# Altium footprint library 排针.PCBLIB: 50 footprints (part 2 of 4)
Each footprint in its own frame and in the unit in brackets; x right, y up, seen from the top. Pads: shape width x height; smd on the part's side, far side on the other; paste and mask are expansions set on the pad; w line width, h text height; cw(c..) or ccw(c..) is an arc to the next point about the centre after c.
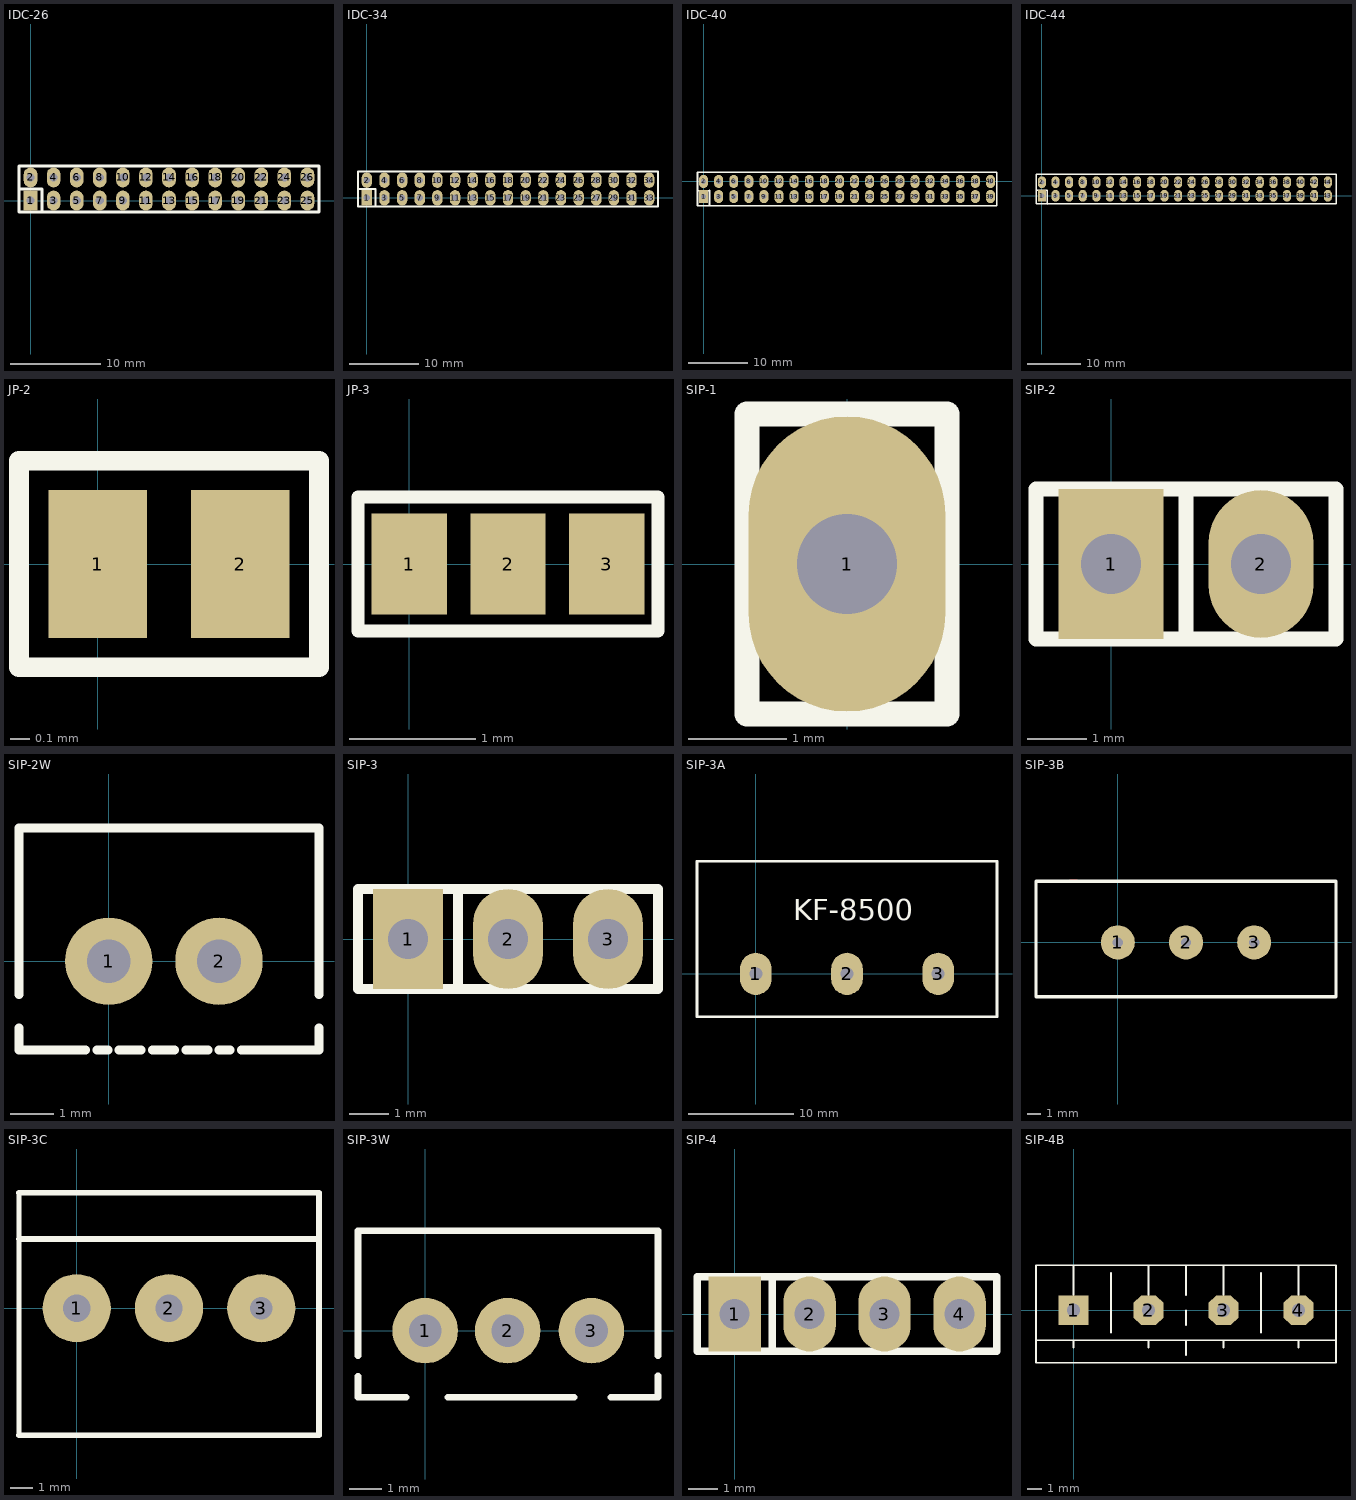
[diagram p1: the footprints below, top view; thin cyan lines are the x and y axes]

## IDC-26 [mm]
pads (26):
  rect 1.5x2.2 hole 0.9: 1(0,0)
  oval 1.5x2.2 hole 0.9: 2(0,2.54) 3(2.54,0) 4(2.54,2.54) 5(5.08,0) 6(5.08,2.54) 7(7.62,0) 8(7.62,2.54) 9(10.16,0) 10(10.16,2.54) 11(12.7,0) 12(12.7,2.54) 13(15.24,0) 14(15.24,2.54) 15(17.78,0) 16(17.78,2.54) 17(20.32,0) 18(20.32,2.54) 19(22.86,0) 20(22.86,2.54) 21(25.4,0) 22(25.4,2.54) 23(27.94,0) 24(27.94,2.54) 25(30.48,0) 26(30.48,2.54)
TopOverlay:
  lines w0.305: -1.27,1.27 1.27,1.27 1.27,-1.27 ; -1.27,-1.27 31.75,-1.27 31.75,3.81 -1.27,3.81 -1.27,-1.27

## IDC-34 [mm]
pads (34):
  rect 1.5x2.2 hole 0.9: 1(0,0)
  oval 1.5x2.2 hole 0.9: 2(0,2.54) 3(2.54,0) 4(2.54,2.54) 5(5.08,0) 6(5.08,2.54) 7(7.62,0) 8(7.62,2.54) 9(10.16,0) 10(10.16,2.54) 11(12.7,0) 12(12.7,2.54) 13(15.24,0) 14(15.24,2.54) 15(17.78,0) 16(17.78,2.54) 17(20.32,0) 18(20.32,2.54) 19(22.86,0) 20(22.86,2.54) 21(25.4,0) 22(25.4,2.54) 23(27.94,0) 24(27.94,2.54) 25(30.48,0) 26(30.48,2.54) 27(33.02,0) 28(33.02,2.54) 29(35.56,0) 30(35.56,2.54) 31(38.1,0) 32(38.1,2.54) 33(40.64,0) 34(40.64,2.54)
TopOverlay:
  lines w0.305: -1.27,1.27 1.27,1.27 1.27,-1.27 ; -1.27,-1.27 41.91,-1.27 41.91,3.81 -1.27,3.81 -1.27,-1.27

## IDC-40 [mm]
pads (40):
  rect 1.5x2.2 hole 0.9: 1(0,-2.54)
  oval 1.5x2.2 hole 0.9: 2(0,0) 3(2.54,-2.54) 4(2.54,0) 5(5.08,-2.54) 6(5.08,0) 7(7.62,-2.54) 8(7.62,0) 9(10.16,-2.54) 10(10.16,0) 11(12.7,-2.54) 12(12.7,0) 13(15.24,-2.54) 14(15.24,0) 15(17.78,-2.54) 16(17.78,0) 17(20.32,-2.54) 18(20.32,0) 19(22.86,-2.54) 20(22.86,0) 21(25.4,-2.54) 22(25.4,0) 23(27.94,-2.54) 24(27.94,0) 25(30.48,-2.54) 26(30.48,0) 27(33.02,-2.54) 28(33.02,0) 29(35.56,-2.54) 30(35.56,0) 31(38.1,-2.54) 32(38.1,0) 33(40.64,-2.54) 34(40.64,0) 35(43.18,-2.54) 36(43.18,0) 37(45.72,-2.54) 38(45.72,0) 39(48.26,-2.54) 40(48.26,0)
TopOverlay:
  lines w0.254: -1.016,-1.524 1.016,-1.524 ; -1.016,-4.064 -1.016,1.524 49.301,1.524 49.301,1.016 49.301,-4.064 -1.016,-4.064
  lines w0.305: 1.016,-4.064 1.016,-1.524

## IDC-44 [mm]
pads (44):
  rect 1.5x2.2 hole 0.9: 1(0,0)
  oval 1.5x2.2 hole 0.9: 2(0,2.54) 3(2.54,0) 4(2.54,2.54) 5(5.08,0) 6(5.08,2.54) 7(7.62,0) 8(7.62,2.54) 9(10.16,0) 10(10.16,2.54) 11(12.7,0) 12(12.7,2.54) 13(15.24,0) 14(15.24,2.54) 15(17.78,0) 16(17.78,2.54) 17(20.32,0) 18(20.32,2.54) 19(22.86,0) 20(22.86,2.54) 21(25.4,0) 22(25.4,2.54) 23(27.94,0) 24(27.94,2.54) 25(30.48,0) 26(30.48,2.54) 27(33.02,0) 28(33.02,2.54) 29(35.56,0) 30(35.56,2.54) 31(38.1,0) 32(38.1,2.54) 33(40.64,0) 34(40.64,2.54) 35(43.18,0) 36(43.18,2.54) 37(45.72,0) 38(45.72,2.54) 39(48.26,0) 40(48.26,2.54) 41(50.8,0) 42(50.8,2.54) 43(53.34,0) 44(53.34,2.54)
TopOverlay:
  lines w0.254: -1.016,1.016 1.016,1.016 ; -1.016,-1.524 54.864,-1.524 54.864,3.556 54.864,4.064 -1.016,4.064 -1.016,-1.524
  lines w0.305: 1.016,-1.524 1.016,1.016

## JP-2 [mil] "端节点"
pads (2):
  rect 20x30 smd: 1(0,0) 2(29,0)
TopOverlay:
  lines w4: -16,-21 -16,21 -9,21 45,21 45,-21 -16,-21

## JP-3 [mm]
pads (3):
  rect 0.6x0.8 smd: 1(0,0) 2(0.787,0) 3(1.575,0)
TopOverlay:
  lines w0.102: -0.406,-0.533 1.981,-0.533 1.981,0.533 -0.356,0.533 -0.406,0.533 -0.406,-0.533

## SIP-1 [mm]
pads (1):
  oval 2x3 hole 1.016: 1(0,0)
TopOverlay:
  lines w0.254: -1.016,-1.524 1.016,-1.524 1.016,1.524 -1.016,1.524 -1.016,-1.524

## SIP-2 [mil]
pads (2):
  rect 70x100 hole 40: 1(0,0)
  oval 70x98.42 hole 40: 2(100,0)
TopOverlay:
  lines w10: 50,-50 50,50 ; -50,-50 150,-50 150,50 -50,50 -50,-50

## SIP-2W [mm] "7mm×5mm，白色底座"
height 6.5
pads (2):
  round 2 hole 1: 1(0,0) 2(2.52,0)
TopOverlay:
  lines w0.2: -2.052,-1.524 -2.052,-2.032 -0.528,-2.032 ; -2.052,-0.762 -2.052,3.048 4.806,3.048 4.806,-0.762 ; -0.274,-2.032 -0.02,-2.032 ; 0.234,-2.032 0.742,-2.032 ; 0.996,-2.032 1.504,-2.032 ; 1.758,-2.032 2.266,-2.032 ; 2.52,-2.032 2.774,-2.032 ; 3.028,-2.032 4.806,-2.032 4.806,-1.524

## SIP-3 [mil]
pads (3):
  rect 70x100 hole 40: 1(0,0)
  oval 70x100 hole 40: 2(100,0) 3(200,0)
TopOverlay:
  lines w10: 50,-50 50,50 ; -50,-50 -50,50 250,50 250,-50 -50,-50

## SIP-3A [mm]
pads (3):
  oval 3x4 hole 1.2: 1(0,0) 2(8.636,0) 3(17.272,0)
TopOverlay:
  lines w0.24: -5.588,-4.064 -5.588,10.668 22.86,10.668 22.86,-4.064 -5.588,-4.064
  text "KF-8500" at 3.556,5.08 h2

## SIP-3B [mil]
pads (3):
  round 100 hole 30: 1(0,0) 2(200,0) 3(400,0)
TopLayer:
  lines w10: -140,180 -120,180
TopOverlay:
  lines w10: -160,-160 -140,-160 640,-160 640,180 -160,180 ; -120,180 -240,180 -240,-160 -60,-160

## SIP-3C [mm]
pads (3):
  round 3 hole 1.2: 1(0,0) 2(4.064,0)
  round 3 hole 1: 3(8.128,0)
TopOverlay:
  lines w0.24: -2.54,-5.588 -2.54,5.08 ; 10.668,2.032 10.668,5.08
  lines w0.254: -2.54,-5.588 10.668,-5.588 10.668,5.08 -2.54,5.08 ; -2.54,3.048 10.668,3.048

## SIP-3W [mm] "10mm×5mm, 白色底座"
height 6.5
pads (3):
  round 2 hole 1: 1(0,0) 2(2.52,0) 3(5.08,0)
TopOverlay:
  lines w0.2: -2.052,-1.397 -2.052,-2.032 -0.579,-2.032 ; -2.052,-0.762 -2.052,3.048 7.112,3.048 7.112,-0.762 ; 0.686,-2.032 4.547,-2.032 ; 5.664,-2.032 7.112,-2.032 7.112,-1.372

## SIP-4 [mil]
pads (4):
  rect 70x100 hole 40: 1(0,0)
  oval 70x100 hole 40: 2(100,0) 3(200,0) 4(300,0)
TopOverlay:
  lines w10: 50,-50 50,50 ; -50,-50 -50,50 350,50 350,-50 -50,-50

## SIP-4B [mm]
pads (4):
  rect 2x2 hole 0.9: 1(0,0)
  oct 2x2 hole 0.9: 2(5.08,0) 3(10.16,0) 4(15.24,0)
TopOverlay:
  lines w0.127: -2.54,-2.032 7.62,-2.032 ; 0,-2.54 0,-2.032 ; 0,1.016 0,3.048 ; 2.54,-1.524 2.54,1.016 ; 2.54,0.508 2.54,2.54 ; 5.08,-2.54 5.08,-2.032 ; 5.08,1.016 5.08,3.048 ; 7.62,-3.048 7.62,-2.032 ; 7.62,-1.016 7.62,0 ; 7.62,1.016 7.62,3.048 ; 10.16,-2.54 10.16,-2.032 ; 10.16,1.016 10.16,3.048 ; 12.7,-1.524 12.7,1.016 ; 12.7,0.508 12.7,2.54 ; 15.24,-2.54 15.24,-2.032 ; 15.24,1.016 15.24,3.048 ; 17.78,-2.032 7.62,-2.032 ; 7.62,3.048 2.54,3.048 -2.54,3.048 -2.54,-3.556 2.54,-3.556 7.62,-3.556 12.7,-3.556 17.78,-3.556 17.78,3.048 12.7,3.048 7.62,3.048